# Altium schematic symbol library DF12NB(3.0)-20DS-0.5V(51).SchLib: 1 symbol
Pins are listed as number, name and electrical type; pins without a type are passive.

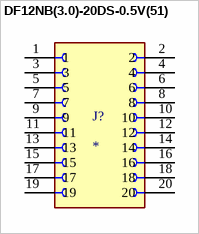
[diagram p0: symbol DF12NB(3.0)-20DS-0.5V(51)]

## DF12NB(3.0)-20DS-0.5V(51)
designator J?
MP: DF12NB(3.0)-20DS-0.5V(51); Value: *; Availability: Unavailable; Package: None; Price: None
footprint HRS_DF12NB(3.0)-20DS-0.5V(51)
pins: 1, 2, 3, 4, 5, 6, 7, 8, 9, 10, 11, 12, 13, 14, 15, 16, 17, 18, 19, 20